# EAGLE library part 691311500022 (library Eagle_WR-TBL Pluggable Connector (rev21a))
WR-TBL Serie 311 - 5.08 mm Open Vertical PCB Header KIND PROPERTIES Pitch 5.08 mm MATERIAL PROPERTIES Insulator Material PBT Insulator Flammability Rating UL94 V-0 Contact Material Brass Contact Plating Tin GENERAL INFORMATION Operating Temperature -40 up to +105 °C ELECTRICAL PROPERTIES IR cULus 20 A IR VDE 20 A Working Voltage [cULus] 300 V (AC) Working Voltage [VDE] 300 V (AC) Withstanding Voltage [cULus] 1600 V (AC) Withstanding Voltage [VDE] 2500 V (AC) Contact Resistance [cULus] 20 mΩ Contact Resistance [VDE] 20 mΩ CERTIFICATION cULus Approval E315414 VDE Approval 40023195 <https://www.we-online.com/catalog/media/o33257v209%20Family_WR-TBL_6913115000xx.jpg> Details see: https://www.we-online.com/catalog/en/TBL_5_08_311_OPEN_VERTICAL_PCB_HEADER_6913115000XX/ Updated by Ella Wu 2019-12-25 2019(C) Wurth Elektronik
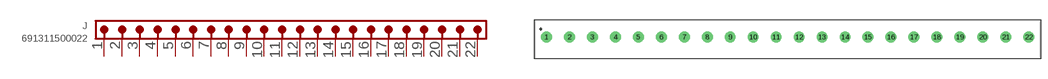
[diagram p271: symbol with the pads of 691311500022; footprint 691311500022]

Designator prefix J

## 691311500022 (DATASHEET-URL: https://www.we-online.com/catalog/datasheet/691311500022.pdf; IR-UL: 20A; IR-VDE: 20A; MOUNT: THT; PART-NUMBER: 691311500022; PINS: 22; PITCH: 5.08mm; TYPE: Vertical; VALUE: 691311500022; WORKING-VOLTAGE-UL: 300V (AC); WORKING-VOLTAGE-VDE: 300V (AC))  [691311500022]
1  1  pas
2  2  pas
3  3  pas
4  4  pas
5  5  pas
6  6  pas
7  7  pas
8  8  pas
9  9  pas
10  10  pas
11  11  pas
12  12  pas
13  13  pas
14  14  pas
15  15  pas
16  16  pas
17  17  pas
18  18  pas
19  19  pas
20  20  pas
21  21  pas
22  22  pas

## Footprint 691311500022 (pad centres in mm)
WR-TBL Serie 311 - 5.08 mm Open Vertical PCB Header Max Height = 12mm , Pitch 5.08mm , 22pins
drill 1.6: 1 -53.34,0; 2 -48.26,0; 3 -43.18,0; 4 -38.1,0; 5 -33.02,0; 6 -27.94,0; 7 -22.86,0; 8 -17.78,0; 9 -12.7,0; 10 -7.62,0; 11 -2.54,0; 12 2.54,0; 13 7.62,0; 14 12.7,0; 15 17.78,0; 16 22.86,0; 17 27.94,0; 18 33.02,0; 19 38.1,0; 20 43.18,0; 21 48.26,0; 22 53.34,0